# Altium schematic symbol library tm4cv006lib.SchLib: 203 symbols (part 5 of 5)
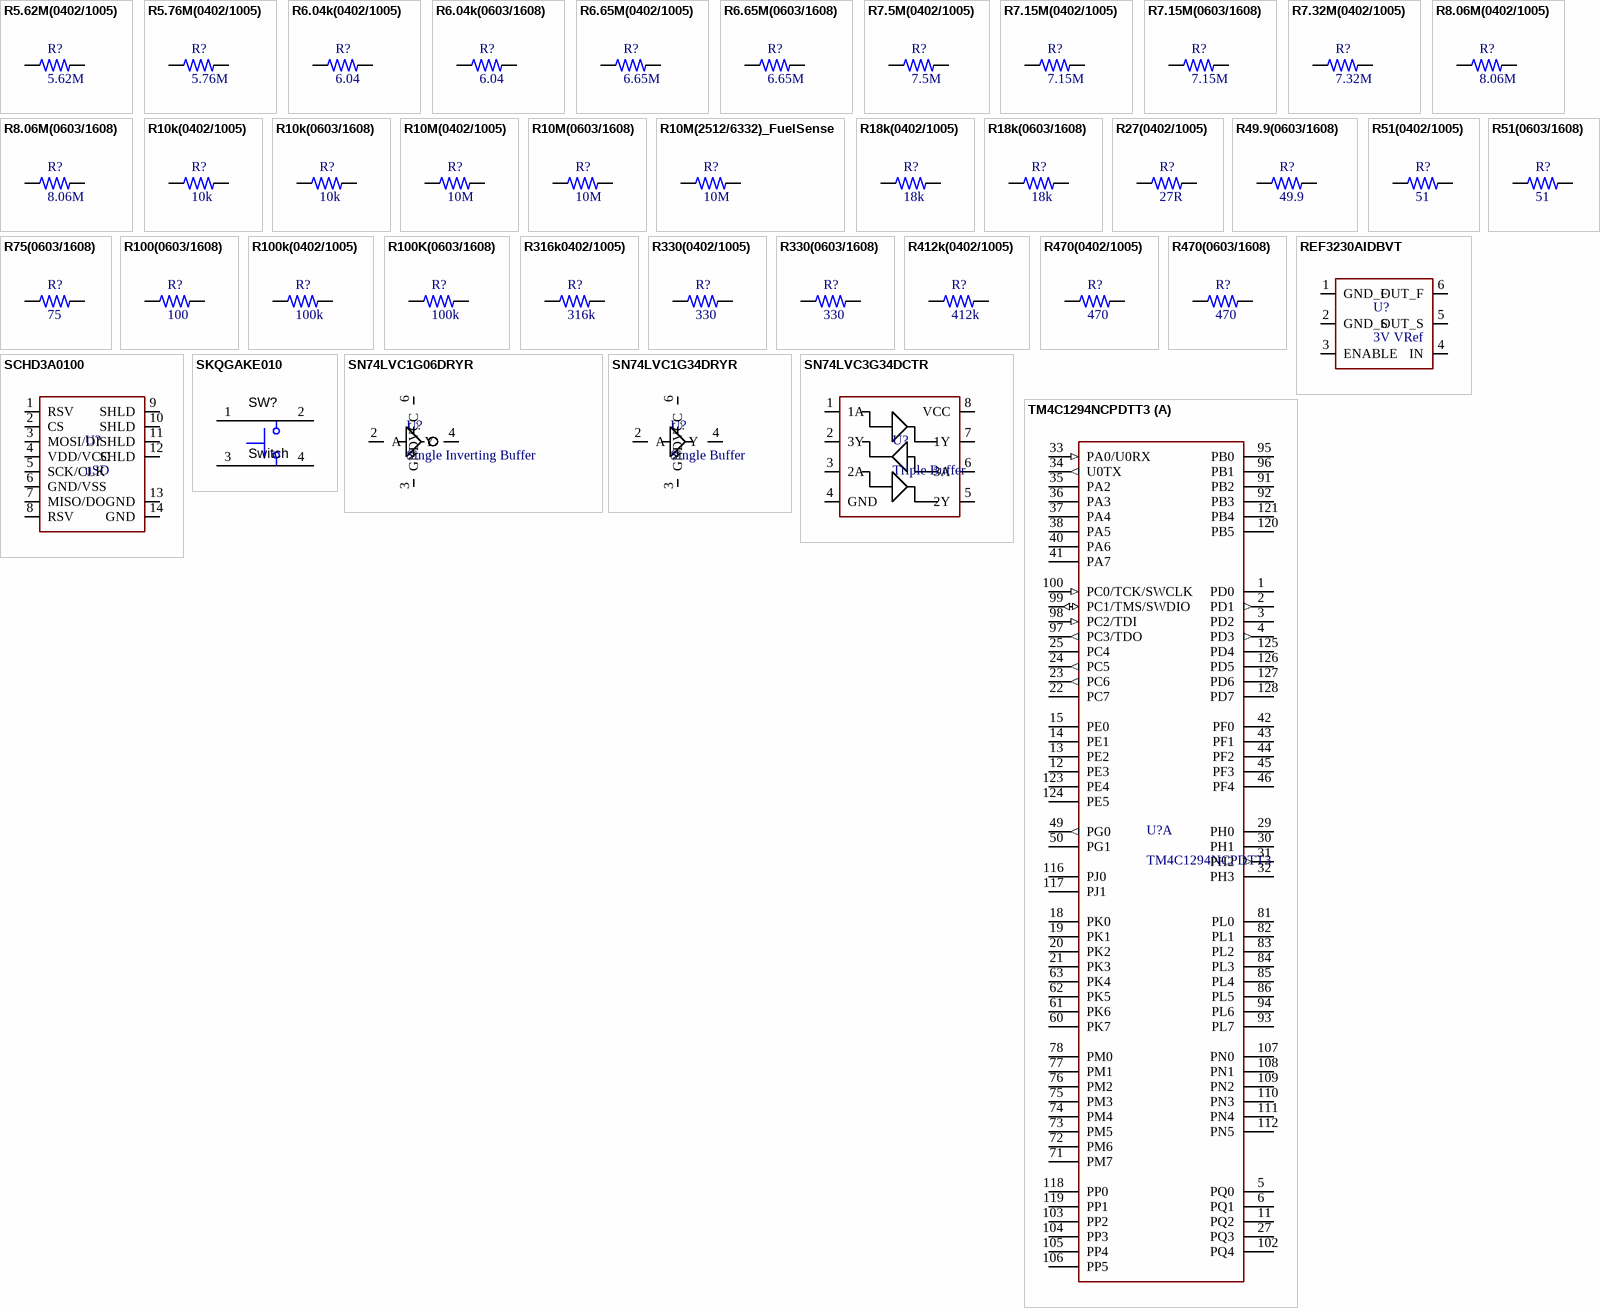
[diagram p9: symbols R5.62M(0402/1005) to TM4C1294NCPDTT3]

## R100k(0402/1005)
designator R?, comment 100k
100K Resistor; Manufacturer: KOA Speer; Manufacturer Part Number: RK73H1ETTP1003F; Power Rating: 100 mW (1/10 W); Resistance: 100 kOhms; Temperature Coefficient: 100 PPM / C; Tolerance: 1 %; Voltage Rating: 50 V; Supplier 1: Mouser; Supplier Part Number 1: 660-RK73H1ETTP1003F; RoHS: RoHS Compliant By Exemption; Category: Thick Film Resistors - SMD; Stock 1: 529832; Pricing 1: 1=0.100, 10=0.024, 100=0.006, 1000=0.004, 10000=0.003 (USD); Features: Anti-leaching nickel barrier terminations; Height: 0.35 mm; Length: 1 mm; Operating Temperature Range: - 55 C to + 155 C; Package / Case: 0402 (1005 metric); Packaging: Reel; Product: Thick Film Resistors SMD; Series: RK73H; Termination Style: SMD/SMT; Type: Precision Thick Film Chip Resistor; Width: 0.5 mm; Brand: KOA Speer; Case Code - in: 0402; Case Code - mm: 1005; Maximum Operating Temperature: + 155 C; Minimum Operating Temperature: - 55 C; Standard Pack Qty: 10000; RoHS - Mouser: E; Minimum Order Quantity: 1; Reeling: True; ComponentLink1URL: http://www.mouser.com/ds/2/219/RK73H-5715.pdf; ComponentLink1Description: http://www.mouser.com/ds/2/219/RK73H-5715.pdf
footprint R0402_1005 (Chip Resistor, 2-Leads, Body 1.00x0.50mm, IPC Medium Density)
pins: 1, 2

## R100K(0603/1608)
designator R?, comment 100k
100k Resistor; Manufacturer: Yageo; Manufacturer Part Number: RC0603FR-07100KL; Power Rating: 100 mW; Resistance: 100 kOhms; Temperature Coefficient: 100 PPM / C; Tolerance: 1 %; Voltage Rating: 75 V; Supplier 1: Mouser; Supplier Part Number 1: 603-RC0603FR-07100KL; RoHS: RoHS Compliant; Category: Thick Film Resistors - SMD; Stock 1: 837129; Pricing 1: 1=0.100, 10=0.010, 100=0.003, 1000=0.002, 5000=0.002, 10000=0.001 (USD); Height: 0.45 mm; Length: 1.6 mm; Operating Temperature Range: - 55 C to + 155 C; Package / Case: 0603 (1608 metric); Packaging: Reel; Product: Thick Film Resistors General Purpose; Series: RC; Termination Style: SMD/SMT; Type: General Purpose Chip Resistor Surface Mount; Width: 0.8 mm; Brand: Yageo; Case Code - in: 0603; Case Code - mm: 1608; Product Category: 0603 SMD Chip Resistors; Standard Pack Qty: 5000; RoHS - Mouser: Y; Minimum Order Quantity: 1; Reeling: True; ComponentLink1URL: http://www.mouser.com/ds/2/447/RC0603-272842.pdf; ComponentLink1Description: http://www.mouser.com/ds/2/447/RC0603-272842.pdf
footprint R0603_1608 (Chip Resistor, 2-Leads, Body 1.60x0.80mm, IPC Medium Density)
pins: 1, 2

## R316k0402/1005)
designator R?, comment 316k
316k Resistor; Manufacturer: Panasonic; Manufacturer Part Number: ERJ-2RKF3163X; Power Rating: 100 mW; Resistance: 316 kOhms; Temperature Coefficient: 100 PPM / C; Tolerance: 1 %; Voltage Rating: 50 V; Qualification: AEC-Q200; Supplier 1: Mouser; Supplier Part Number 1: 667-ERJ-2RKF3163X; RoHS: RoHS Compliant By Exemption; Category: Thick Film Resistors - SMD; Stock 1: 29622; Pricing 1: 1=0.100, 10=0.015, 100=0.006, 1000=0.004, 5000=0.003, 10000=0.002 (USD); Height: 0.35 mm; Length: 1 mm; Operating Temperature Range: - 55 C to + 155 C; Package / Case: 0402 (1005 metric); Packaging: Reel; Product: Thick Film Resistors SMD; Series: ERJ; Termination Style: SMD/SMT; Type: Precision Thick Film Resistors SMD; Width: 0.5 mm; Brand: Panasonic; Case Code - in: 0402; Case Code - mm: 1005; Standard Pack Qty: 10000; RoHS - Mouser: E; Minimum Order Quantity: 1; Reeling: True; ComponentLink1URL: http://www.mouser.com/ds/2/315/AOA0000C86-911473.pdf; ComponentLink1Description: http://www.mouser.com/ds/2/315/AOA0000C86-911473.pdf
footprint R0402_1005 (Chip Resistor, 2-Leads, Body 1.00x0.50mm, IPC Medium Density)
pins: 1, 2

## R330(0402/1005)
designator R?, comment 330
330 Resistor; Manufacturer: Panasonic; Manufacturer Part Number: ERJ-2RKF3300X; Power Rating: 100 mW; Resistance: 330 Ohms; Temperature Coefficient: 100 PPM / C; Tolerance: 1 %; Voltage Rating: 50 V; Qualification: AEC-Q200; RoHS: RoHS Compliant By Exemption; Category: Thick Film Resistors - SMD; Height: 0.35 mm; Length: 1 mm; Operating Temperature Range: - 55 C to + 155 C; Package / Case: 0402 (1005 metric); Packaging: Reel; Product: Thick Film Resistors SMD; Series: ERJ; Termination Style: SMD/SMT; Type: Precision Thick Film Resistors SMD; Width: 0.5 mm; Brand: Panasonic; Case Code - in: 0402; Case Code - mm: 1005; Standard Pack Qty: 10000; RoHS - Mouser: E; Minimum Order Quantity: 1; Reeling: True; ComponentLink1URL: http://www.mouser.com/ds/2/315/AOA0000C86-911473.pdf; ComponentLink1Description: http://www.mouser.com/ds/2/315/AOA0000C86-911473.pdf; Supplier 1: Mouser; Supplier Part Number 1: 667-ERJ-2RKF3300X; Stock 1: 130437; Pricing 1: 1=0.100, 10=0.015, 100=0.006, 1000=0.004, 5000=0.003, 10000=0.002 (USD)
footprint R0402_1005 (Chip Resistor, 2-Leads, Body 1.00x0.50mm, IPC Medium Density)
pins: 1, 2

## R330(0603/1608)
designator R?, comment 330
330 Resistor; Manufacturer: Yageo; Manufacturer Part Number: RC0603FR-07330RL; Power Rating: 100 mW; Resistance: 330 Ohms; Temperature Coefficient: 100 PPM / C; Tolerance: 1 %; Voltage Rating: 75 V; Supplier 1: Mouser; Supplier Part Number 1: 603-RC0603FR-07330RL; RoHS: RoHS Compliant; Category: Thick Film Resistors - SMD; Stock 1: 8914; Pricing 1: 1=0.100, 10=0.010, 100=0.003, 1000=0.002, 5000=0.002, 10000=0.001 (USD); Height: 0.45 mm; Length: 1.6 mm; Operating Temperature Range: - 55 C to + 155 C; Package / Case: 0603 (1608 metric); Packaging: Reel; Product: Thick Film Resistors General Purpose; Series: RC; Termination Style: SMD/SMT; Type: General Purpose Chip Resistor Surface Mount; Width: 0.8 mm; Brand: Yageo; Case Code - in: 0603; Case Code - mm: 1608; Product Category: 0603 SMD Chip Resistors; Standard Pack Qty: 5000; RoHS - Mouser: Y; Minimum Order Quantity: 1; Reeling: True; ComponentLink1URL: http://www.mouser.com/ds/2/447/RC0603-272842.pdf; ComponentLink1Description: http://www.mouser.com/ds/2/447/RC0603-272842.pdf
footprint R0603_1608 (Chip Resistor, 2-Leads, Body 1.60x0.80mm, IPC Medium Density)
pins: 1, 2

## R412k(0402/1005)
designator R?, comment 412k
412k Resistor; Manufacturer: Panasonic; Manufacturer Part Number: ERJ-2RKF4123X; Power Rating: 100 mW; Resistance: 412 kOhms; Temperature Coefficient: 100 PPM / C; Tolerance: 1 %; Voltage Rating: 50 V; Qualification: AEC-Q200; Supplier 1: Mouser; Supplier Part Number 1: 667-ERJ-2RKF4123X; RoHS: RoHS Compliant By Exemption; Category: Thick Film Resistors - SMD; Stock 1: 49623; Pricing 1: 1=0.100, 10=0.015, 100=0.006, 1000=0.004, 5000=0.003, 10000=0.002 (USD); Height: 0.35 mm; Length: 1 mm; Operating Temperature Range: - 55 C to + 155 C; Package / Case: 0402 (1005 metric); Packaging: Reel; Product: Thick Film Resistors SMD; Series: ERJ; Termination Style: SMD/SMT; Type: Precision Thick Film Resistors SMD; Width: 0.5 mm; Brand: Panasonic; Case Code - in: 0402; Case Code - mm: 1005; Standard Pack Qty: 10000; RoHS - Mouser: E; Minimum Order Quantity: 1; Reeling: True; ComponentLink1URL: http://www.mouser.com/ds/2/315/AOA0000C86-911473.pdf; ComponentLink1Description: http://www.mouser.com/ds/2/315/AOA0000C86-911473.pdf
footprint R0402_1005 (Chip Resistor, 2-Leads, Body 1.00x0.50mm, IPC Medium Density)
pins: 1, 2

## R470(0402/1005)
designator R?, comment 470
470 Resistor; Manufacturer: Panasonic; Manufacturer Part Number: ERJ-2RKF4700X; Power Rating: 100 mW; Resistance: 470 Ohms; Temperature Coefficient: 100 PPM / C; Tolerance: 1 %; Voltage Rating: 50 V; Qualification: AEC-Q200; Supplier 1: Mouser; Supplier Part Number 1: 667-ERJ-2RKF4700X; RoHS: RoHS Compliant By Exemption; Category: Thick Film Resistors - SMD; Stock 1: 6075; Pricing 1: 1=0.100, 10=0.015, 100=0.006, 1000=0.004, 5000=0.003, 10000=0.002 (USD); Height: 0.35 mm; Length: 1 mm; Operating Temperature Range: - 55 C to + 155 C; Package / Case: 0402 (1005 metric); Packaging: Reel; Product: Thick Film Resistors SMD; Series: ERJ; Termination Style: SMD/SMT; Type: Precision Thick Film Resistors SMD; Width: 0.5 mm; Brand: Panasonic; Case Code - in: 0402; Case Code - mm: 1005; Standard Pack Qty: 10000; RoHS - Mouser: E; Minimum Order Quantity: 1; Reeling: True; ComponentLink1URL: http://www.mouser.com/ds/2/315/AOA0000C86-911473.pdf; ComponentLink1Description: http://www.mouser.com/ds/2/315/AOA0000C86-911473.pdf
footprint R0402_1005 (Chip Resistor, 2-Leads, Body 1.00x0.50mm, IPC Medium Density)
pins: 1, 2

## R470(0603/1608)
designator R?, comment 470
470 Resistor; Manufacturer: Yageo; Manufacturer Part Number: RC0603FR-07470RL; Power Rating: 100 mW; Resistance: 470 Ohms; Temperature Coefficient: 100 PPM / C; Tolerance: 1 %; Voltage Rating: 75 V; Supplier 1: Mouser; Supplier Part Number 1: 603-RC0603FR-07470RL; RoHS: RoHS Compliant; Category: Thick Film Resistors - SMD; Stock 1: 70875; Pricing 1: 1=0.100, 10=0.010, 100=0.003, 1000=0.002, 5000=0.002, 10000=0.001 (USD); Height: 0.45 mm; Length: 1.6 mm; Operating Temperature Range: - 55 C to + 155 C; Package / Case: 0603 (1608 metric); Packaging: Reel; Product: Thick Film Resistors General Purpose; Series: RC; Termination Style: SMD/SMT; Type: General Purpose Chip Resistor Surface Mount; Width: 0.8 mm; Brand: Yageo; Case Code - in: 0603; Case Code - mm: 1608; Product Category: 0603 SMD Chip Resistors; Standard Pack Qty: 5000; RoHS - Mouser: Y; Minimum Order Quantity: 1; Reeling: True; ComponentLink1URL: http://www.mouser.com/ds/2/447/RC0603-272842.pdf; ComponentLink1Description: http://www.mouser.com/ds/2/447/RC0603-272842.pdf
footprint R0603_1608 (Chip Resistor, 2-Leads, Body 1.60x0.80mm, IPC Medium Density)
pins: 1, 2

## REF3230AIDBVT
designator U?, comment 3V VRef
3.0V Precision Voltage Reference; Manufacturer: Texas Instruments; Manufacturer Part Number: REF3230AIDBVT; Temperature Coefficient: 7 PPM / C; Reference Type: Series References; Series VREF - Input Voltage - Max: 5.5 V; Shunt Current - Max: 10 mA; Supply Current - Max: 120 uA; Initial Accuracy: 0.2 %; Operating Supply Current: 100 uA; Supplier 1: Mouser; Supplier Part Number 1: 595-REF3230AIDBVT; RoHS: RoHS Compliant; Category: Voltage References; Stock 1: 302; Pricing 1: 1=4.76, 10=4.28, 25=3.99, 50=3.77, 100=3.51, 250=3.33, 500=2.98, 1000=2.25 (USD); Output Voltage: 3 V; Package / Case: SOT-23-6; Packaging: Reel; Series: REF3230; Brand: Texas Instruments; Mounting Style: SMD/SMT; Maximum Operating Temperature: + 125 C; Minimum Operating Temperature: - 40 C; Product Category: Voltage References; Standard Pack Qty: 250; RoHS - Mouser: Y; Minimum Order Quantity: 1; Reeling: True; ComponentLink1URL: http://www.mouser.com/ds/2/405/ref3230-556508.pdf; ComponentLink1Description: http://www.mouser.com/ds/2/405/ref3230-556508.pdf
footprint REF3230AIDBVT (3V VRef, SOT23, 6-Leads, Body 2.90x2.80mm, Pitch 0.95mm, IPC Medium Density)
pins: 1 GND_F "Connection for Inductor", 2 GND_S "Connection for Inductor", 3 ENABLE "Connection for Inductor", 4 IN "Connection for Inductor", 5 OUT_S "Connection for Inductor", 6 OUT_F "Connection for Inductor"

## SCHD3A0100
designator U?, comment uSD
MicroSD Adapter; Manufacturer: ALPS; Manufacturer Part Number: SCHD3A0100; Number of Contacts: 8; Voltage Rating: 250 VAC; Pitch: 1.1 mm; Insertion - Extraction Style: Manual-Manual (Slide In-Slide Out); Mating Cycles: 10 k; Supplier 1: Mouser; Supplier Part Number 1: 688-SCHD3A0100; RoHS: RoHS Compliant; Category: Memory Card Connectors; Stock 1: 4537; Pricing 1: 1=0.430, 25=0.396, 50=0.369, 100=0.360, 500=0.342, 1000=0.333, 2000=0.306, 4000=0.288, 10000=0.279 (USD); Height: 16.8 mm; Length: 14.6 mm; Mounting Type: Standard; Number of Rows: 1 Row; Orientation: Horizontal; Packaging: Reel; Product: Headers; Termination Style: SMD; Brand: ALPS; Mounting Style: -; Card Type: microSD; RoHS - Mouser: Y; Minimum Order Quantity: 1; Reeling: True; ComponentLink1URL: http://www.alps.com/WebObjects/catalog.woa/E/HTML/Connector/microSD_Card/SCHD/SCHD3A0100.html; ComponentLink1Description: http://www.alps.com/WebObjects/catalog.woa/E/HTML/Connector/microSD_Card/SCHD/SCHD3A0100.html
footprint SCHD3A0100 (Micro SD Card Adapter)
pins: 1 RSV, 2 CS, 3 MOSI/DI, 4 VDD/VCC, 5 SCK/CLK, 6 GND/VSS, 7 MISO/DO, 8 RSV, 9 SHLD, 10 SHLD, 11 SHLD, 12 SHLD, 13 GND, 14 GND

## SKQGAKE010
designator SW?, comment Switch
Tactile Switch; Manufacturer: ALPS; Manufacturer Part Number: SKQGAKE010; Actuator: Stem; Current Rating: 50 mA; Operating Force: 3.4 N; Stem Height: 0.7 mm; Voltage Rating DC: 12 VDC; Mounting Direction: Vertical; Travel: 0.25 mm; Supplier 1: Mouser; Supplier Part Number 1: 688-SKQGAKE010; RoHS: RoHS Compliant; Category: Tactile Switches; Stock 1: 17267; Pricing 1: 1=0.140, 25=0.126, 50=0.121, 100=0.116, 500=0.110, 1000=0.104, 2500=0.099, 5000=0.093 (USD); Contact Plating: Silver; Height: 1.5 mm; Packaging: Reel; Series: SKQG; Termination Style: Gull Wing Lead; Brand: ALPS; Mounting Style: SMD/SMT; Tradename: TACT Switch; RoHS - Mouser: Y; Minimum Order Quantity: 1; Reeling: True; ComponentLink1URL: http://www.mouser.com/ds/2/15/SKQG-180836.pdf; ComponentLink1Description: http://www.mouser.com/ds/2/15/SKQG-180836.pdf
footprint SW4-SMD-5.2X5.2X1.5MM
pins: 1, 2, 3, 4

## SN74LVC1G06DRYR
designator U?, comment Single Inverting Buffer
Single Inverting Buffer Gate, Open-Drain Output; Manufacturer: Texas Instruments; Manufacturer Part Number: SN74LVC1G06DRYR; Function: Buffer/Driver; Output Type: Open Drain; Quiescent Current: 10 uA; Logic Family: LVC; Logic Type: CMOS; Number of Channels: 1 Channel; Number of Input Lines: 1 Input; Number of Output Lines: 1 Output; Input Signal Type: Single-Ended; Low Level Output Current: 32 mA; Operating Supply Voltage: 1.8 V, 2.5 V, 3.3 V, 5 V; Propagation Delay Time: 3.5 ns at 5 V; Supply Voltage - Max: 5.5 V; Supply Voltage - Min: 1.65 V; Supplier 1: Mouser; Supplier Part Number 1: 595-SN74LVC1G06DRYR; RoHS: RoHS Compliant; Category: Buffers & Line Drivers; Stock 1: 4960; Pricing 1: 1=0.360, 10=0.275, 100=0.149, 1000=0.112, 5000=0.096, 10000=0.089, 20000=0.082, 45000=0.079, 100000=0.075 (USD); Height: 0.5 mm; Length: 1.45 mm; Package / Case: USON-6; Packaging: Reel; Series: SN74LVC1G06; Technology: CMOS; Width: 1 mm; Brand: Texas Instruments; Mounting Style: SMD/SMT; Supply Current - Max: 10 uA; Maximum Operating Temperature: + 125 C; Minimum Operating Temperature: - 40 C; Operating Supply Current: 10 uA; Polarity: Inverting; Standard Pack Qty: 5000; RoHS - Mouser: Y; Minimum Order Quantity: 1; Reeling: True
footprint SN74LVC1G06DRYR (SON, 6-Leads, Body 1.45x1.00mm, Pitch 0.50mm, IPC Medium Density)
pins: 1 N.C. hidden, 2 A, 3 GND, 4 Y, 5 N.C. hidden, 6 VCC

## SN74LVC1G34DRYR
designator U?, comment Single Buffer
Single Noninverting Buffer Gate; Manufacturer: Texas Instruments; Manufacturer Part Number: SN74LVC1G34DRYR; Quiescent Current: 1 uA; Logic Family: LVC; Number of Channels: 1; Number of Input Lines: 1 Input; Number of Output Lines: 1 Output; High Level Output Current: - 32 mA; Input Signal Type: Single-Ended; Low Level Output Current: 32 mA; Operating Supply Voltage: 1.8 V, 2.5 V, 3.3 V, 5 V; Polarity: Non-Inverting; Propagation Delay Time: 4.1 ns at 3.3 V, 3.2 ns at 5 V; Supply Voltage - Max: 5.5 V; Supply Voltage - Min: 1.65 V; Supplier 1: Mouser; Supplier Part Number 1: 595-SN74LVC1G34DRYR; RoHS: RoHS Compliant; Category: Buffers & Line Drivers; Stock 1: 6304; Pricing 1: 1=0.410, 10=0.319, 100=0.173, 1000=0.130, 5000=0.112, 10000=0.104, 20000=0.095, 45000=0.092, 100000=0.087 (USD); Function: Buffer; Height: 0.5 mm; Length: 1.45 mm; Package / Case: USON-6; Packaging: Reel; Series: SN74LVC1G34; Technology: CMOS; Width: 1 mm; Brand: Texas Instruments; Mounting Style: SMD/SMT; Supply Current - Max: 1 uA; Maximum Operating Temperature: + 85 C; Minimum Operating Temperature: - 40 C; Standard Pack Qty: 5000; RoHS - Mouser: Y; Minimum Order Quantity: 1; Reeling: True; Supplier 2: Digi-Key; Supplier Part Number 2: 296-29051-1-ND
footprint SN74LVC1G34DRYR (SON, 6-Leads, Body 1.45x1.00mm, Pitch 0.50mm, IPC Medium Density)
pins: 1 N.C. hidden, 2 A, 3 GND, 4 Y, 5 N.C. hidden, 6 VCC

## SN74LVC3G34DCTR
designator U?, comment Triple Buffer
Triple Noninverting Buffer Gate; Manufacturer: Texas Instruments; Manufacturer Part Number: SN74LVC3G34DCTR; Quiescent Current: 10 uA; Logic Family: LVC; Logic Type: CMOS; Number of Channels: 3; Number of Input Lines: 3 Input; Number of Output Lines: 3 Output; High Level Output Current: - 32 mA; Input Signal Type: Single-Ended; Low Level Output Current: 32 mA; Operating Supply Voltage: 1.8 V; Polarity: Non-Inverting; Propagation Delay Time: 4.1 ns at 3.3 V, 3.2 ns at 5 V; Supply Voltage - Max: 5.5 V; Supply Voltage - Min: 1.65 V; Supplier 1: Mouser; Supplier Part Number 1: 595-SN74LVC3G34DCTR; RoHS: RoHS Compliant; Category: Buffers & Line Drivers; Stock 1: 5588; Pricing 1: 1=0.690, 10=0.580, 100=0.374, 1000=0.299, 2000=0.252, 3000=0.252, 9000=0.242, 24000=0.233, 48000=0.224 (USD); Function: Buffer; Height: 1.29 mm; Length: 2.95 mm; Package / Case: SSOP-8; Packaging: Reel; Series: SN74LVC3G34; Technology: CMOS; Width: 2.8 mm; Brand: Texas Instruments; Mounting Style: SMD/SMT; Supply Current - Max: 10 uA; Maximum Operating Temperature: + 85 C; Minimum Operating Temperature: - 40 C; Standard Pack Qty: 3000; RoHS - Mouser: Y; Minimum Order Quantity: 1; Reeling: True
footprint SN74LVC3G34DCTR (TSOP, 8-Leads, Body 2.95x2.80mm, Pitch 0.65mm, IPC Medium Density)
pins: 1 1A, 2 3Y, 3 2A, 4 GND, 5 2Y, 6 3A, 7 1Y, 8 VCC

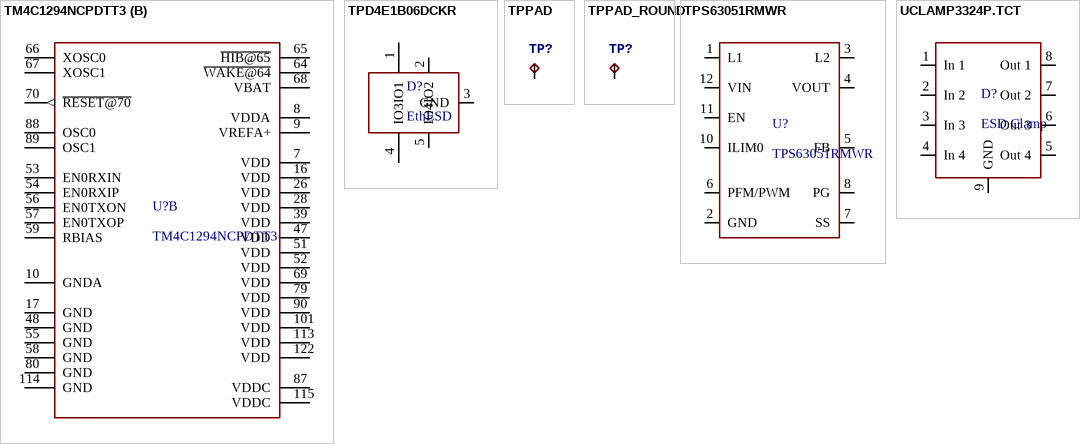
[diagram p5: symbols TM4C1294NCPDTT3 to UCLAMP3324P.TCT]

## TM4C1294NCPDTT3
designator U?
TM4C MCU; Manufacturer: Texas Instruments (TI); RAM Size: 256; Max Power Dissipation: 452; Interface: I2C,SPI,USB,CAN,Ethernet,IrDA,UART,USART,EBI/EMI; I/Os: 90; Timers/Counters: 8; ADC Channels: 20; Frequency: 120; Oscillator Type: Internal; Data Bus Width: 32; Watchdog Timer: Yes; Memory Type: FLASH; Memory Size: 1; Bits: 12; Supplier 1: Mouser; Supplier Part Number 1: 595-TM4C1294NCPDTT3; Manufacturer Part Number: TM4C1294NCPDTT3; Stock 1: 591; Pricing 1: 1=17.65, 10=16.23, 50=15.39, 100=13.71, 1000=12.19, 10000=12.19 (USD); Mount: Surface Mount; Case/Package: TQFP; Pins: 128; Min Operating Temperature: -40; Max Operating Temperature: 105; Packaging: Tray; Programmable I/O: 90; Max Frequency: 120; UART Channels: 8; A/D Converters: 20; Package Quantity: 90; Weight: 0.01776; Lead Free: Lead Free; ComponentLink1URL: https://datasheet.ciiva.com/48492/tm4c1294ncpdt-48492168.pdf; ComponentLink1Description: https://datasheet.ciiva.com/48492/tm4c1294ncpdt-48492168.pdf
footprint TM4C1294NCPDTT3 (TSQFP, 128-Leads, Body 14.00x14.00mm, Pitch 0.40mm, IPC Medium Density)
part A pins: 1 PD0, 2 PD1 (out), 3 PD2, 4 PD3 (out), 5 PQ0, 6 PQ1, 11 PQ2, 12 PE3, 13 PE2, 14 PE1, 15 PE0, 18 PK0, 19 PK1, 20 PK2, 21 PK3, 22 PC7, 23 PC6 (out), 24 PC5 (out), 25 PC4, 27 PQ3, 29 PH0, 30 PH1, 31 PH2 (out), 32 PH3, 33 PA0/U0RX (in), 34 U0TX (out), 35 PA2, 36 PA3, 37 PA4, 38 PA5, 40 PA6, 41 PA7, 42 PF0, 43 PF1, 44 PF2, 45 PF3, 46 PF4, 49 PG0 (out), 50 PG1, 60 PK7, 61 PK6, 62 PK5, 63 PK4, 71 PM7, 72 PM6, 73 PM5, 74 PM4, 75 PM3, 76 PM2, 77 PM1, 78 PM0, 81 PL0, 82 PL1, 83 PL2, 84 PL3, 85 PL4, 86 PL5, 91 PB2, 92 PB3, 93 PL7, 94 PL6, 95 PB0, 96 PB1, 97 PC3/TDO (out) "JTAG TDO and SWO", 98 PC2/TDI (in) "JTAG TDI", 99 PC1/TMS/SWDIO (io) "JTAG TMS and SWDIO", 100 PC0/TCK/SWCLK (in) "JTAG/SWD CLK", 102 PQ4, 103 PP2, 104 PP3, 105 PP4, 106 PP5, 107 PN0, 108 PN1, 109 PN2, 110 PN3, 111 PN4, 112 PN5, 116 PJ0, 117 PJ1, 118 PP0, 119 PP1, 120 PB5, 121 PB4, 123 PE4, 124 PE5, 125 PD4, 126 PD5, 127 PD6, 128 PD7
part B pins: 7 VDD, 8 VDDA, 9 VREFA+, 10 GNDA, 16 VDD, 17 GND, 26 VDD, 28 VDD, 39 VDD, 47 VDD, 48 GND, 51 VDD, 52 VDD, 53 EN0RXIN, 54 EN0RXIP, 55 GND, 56 EN0TXON, 57 EN0TXOP, 58 GND, 59 RBIAS, 64 ~{WAKE@64}, 65 ~{HIB@65}, 66 XOSC0, 67 XOSC1, 68 VBAT, 69 VDD, 70 ~{RESET@70} (out), 79 VDD, 80 GND, 87 VDDC, 88 OSC0, 89 OSC1, 90 VDD, 101 VDD, 113 VDD, 114 GND, 115 VDDC, 122 VDD

## TPD4E1B06DCKR
designator D?, comment EthESD
Ethernet TVS Diode; Manufacturer: Texas Instruments; Manufacturer Part Number: TPD4E1B06DCKR; Breakdown Voltage: 7 V; Clamping Voltage: 14.5 V; Number of Channels: 4 Channel; Cd - Diode Capacitance: 0.7 pF; Ipp - Peak Pulse Current: 3 A; Operating Supply Voltage: 5.5 V; Pd - Power Dissipation: 45 W; Polarity: Bidirectional; Vesd - Voltage ESD Air Gap: 15 kV; Vesd - Voltage ESD Contact: 12 kV; Supplier 1: Mouser; Supplier Part Number 1: 595-TPD4E1B06DCKR; RoHS: RoHS Compliant; Category: ESD Suppressors; Stock 1: 5482; Pricing 1: 1=0.550, 10=0.462, 100=0.282, 1000=0.218, 3000=0.186, 9000=0.173, 24000=0.164, 45000=0.160 (USD); Package / Case: SC-70-6; Packaging: Reel; Series: TPD4E1B06; Termination Style: SMD/SMT; Brand: Texas Instruments; Maximum Operating Temperature: + 125 C; Minimum Operating Temperature: - 40 C; Standard Pack Qty: 3000; Working Voltage: 5.5 V; RoHS - Mouser: Y; Minimum Order Quantity: 1; Reeling: True; ComponentLink1URL: http://www.mouser.com/ds/2/405/tpd4e1b06-448874.pdf; ComponentLink1Description: http://www.mouser.com/ds/2/405/tpd4e1b06-448874.pdf
footprint TPD4E1B06DCKR (Ethernet TVS ESD Suppressor, TSOP, 6-Leads, Body 2.00x1.25mm, Pitch 0.65mm, IPC High Density)
pins: 1 IO1, 2 IO2, 3 GND, 4 IO3, 5 IO4

## TPPAD
designator TP?, comment TestPt  (value not drawn)
Test Point
footprint TP1
pins: TP

## TPPAD_ROUND
designator TP?, comment TestPt  (value not drawn)
Test Point
footprint TP1_ROUND
pins: TP

## TPS63051RMWR
designator U?
Buck/Boost Converter; Manufacturer: Texas Instruments; Function: Step-Up/Step-Down; Output Configuration: Positive; Topology: Buck-Boost; Output Type: Fixed; Number of Outputs: 1; Voltage - Input (Min): 2.5V; Voltage - Input (Max): 5.5V; Voltage - Output (Min/Fixed): 3.3V; Current - Output: 500mA; Frequency - Switching: 2.5MHz; Synchronous Rectifier: Yes; Supplier 1: Digi-Key; Supplier Part Number 1: 296-42650-1-ND; Manufacturer Part Number: TPS63051RMWR; RoHS: RoHS Compliant; Category: Integrated Circuits (ICs); Stock 1: 2302; Pricing 1: 1=2.02, 10=1.818, 100=1.4611, 500=1.20046, 1000=0.99467 (USD); Packaging: Cut Tape (CT); Part Status: Active; Voltage - Output (Max): -; Operating Temperature: -40°C ~ 85°C (TA); Mounting Type: Surface Mount; Package / Case: 12-VFQFN; Supplier Device Package: 12-VQFN (2.5x2.5); ComponentLink1URL: http://www.ti.com/lit/ds/symlink/tps63050.pdf; ComponentLink1Description: http://www.ti.com/lit/ds/symlink/tps63050.pdf
footprint TPS63051RMWR (QFN, 12-Leads, Body 2.50x2.50mm, Pitch 0.50mm, IPC Medium Density)
pins: 1 L1 "Connection for Inductor", 2 GND, 3 L2, 4 VOUT, 5 FB, 6 PFM/PWM, 7 SS, 8 PG, 9 GND, 10 ILIM0 "Programmable Inrush Current Limit Input (Must not be left floating)", 11 EN "Enable Input (Must not be left floating)", 12 VIN "Supply Voltage"

## UCLAMP3324P.TCT
designator D?, comment ESD Clamp
Ethernet ESD Clamp; Manufacturer: Semtech; Manufacturer Part Number: UCLAMP3324P.TCT; Breakdown Voltage: 3.5 V; Clamping Voltage: 8 V; Current Rating: 50 nA; Number of Channels: 4 Channel; Cd - Diode Capacitance: 14 pF; Ipp - Peak Pulse Current: 5 A; Operating Supply Voltage: 3.3 V; Pd - Power Dissipation: 40 W; Polarity: Bidirectional; Vesd - Voltage ESD Air Gap: 15 kV; Vesd - Voltage ESD Contact: 8 kV; Product Status: New at Mouser; Supplier 1: Mouser; Supplier Part Number 1: 947-UCLAMP3324P.TCT; RoHS: RoHS Compliant; Category: ESD Suppressors; Stock 1: 4955; Pricing 1: 1=1.21, 10=0.969, 100=0.640, 1000=0.505, 3000=0.471, 9000=0.431, 24000=0.417 (USD); Packaging: Reel; Termination Style: SMD/SMT; Brand: Semtech; Maximum Operating Temperature: + 125 C; Minimum Operating Temperature: - 55 C; Standard Pack Qty: 3000; Working Voltage: 3.3 V; RoHS - Mouser: Y; Minimum Order Quantity: 1; Reeling: True; ComponentLink1URL: http://www.mouser.com/ds/2/761/down-767170.pdf; ComponentLink1Description: http://www.mouser.com/ds/2/761/down-767170.pdf
footprint UCLAMP3324P.TCT (Ethernet ESD Clamp, QFN, 8-Leads, Body 1.60x2.10mm, Pitch 0.50mm, Thermal Pad 0.38x1.68mm, IPC Medium Density)
pins: 1 In 1, 2 In 2, 3 In 3, 4 In 4, 5 Out 4, 6 Out 3, 7 Out 2, 8 Out 1, 9 GND